# Altium footprint library WANGYU92100PcbLib.PcbLib: 392 footprints (part 15 of 25)
Each footprint in its own frame and in the unit in brackets; x right, y up, seen from the top. Pads: shape width x height; smd on the part's side, far side on the other; paste and mask are expansions set on the pad; w line width, h text height; cw(c..) or ccw(c..) is an arc to the next point about the centre after c.
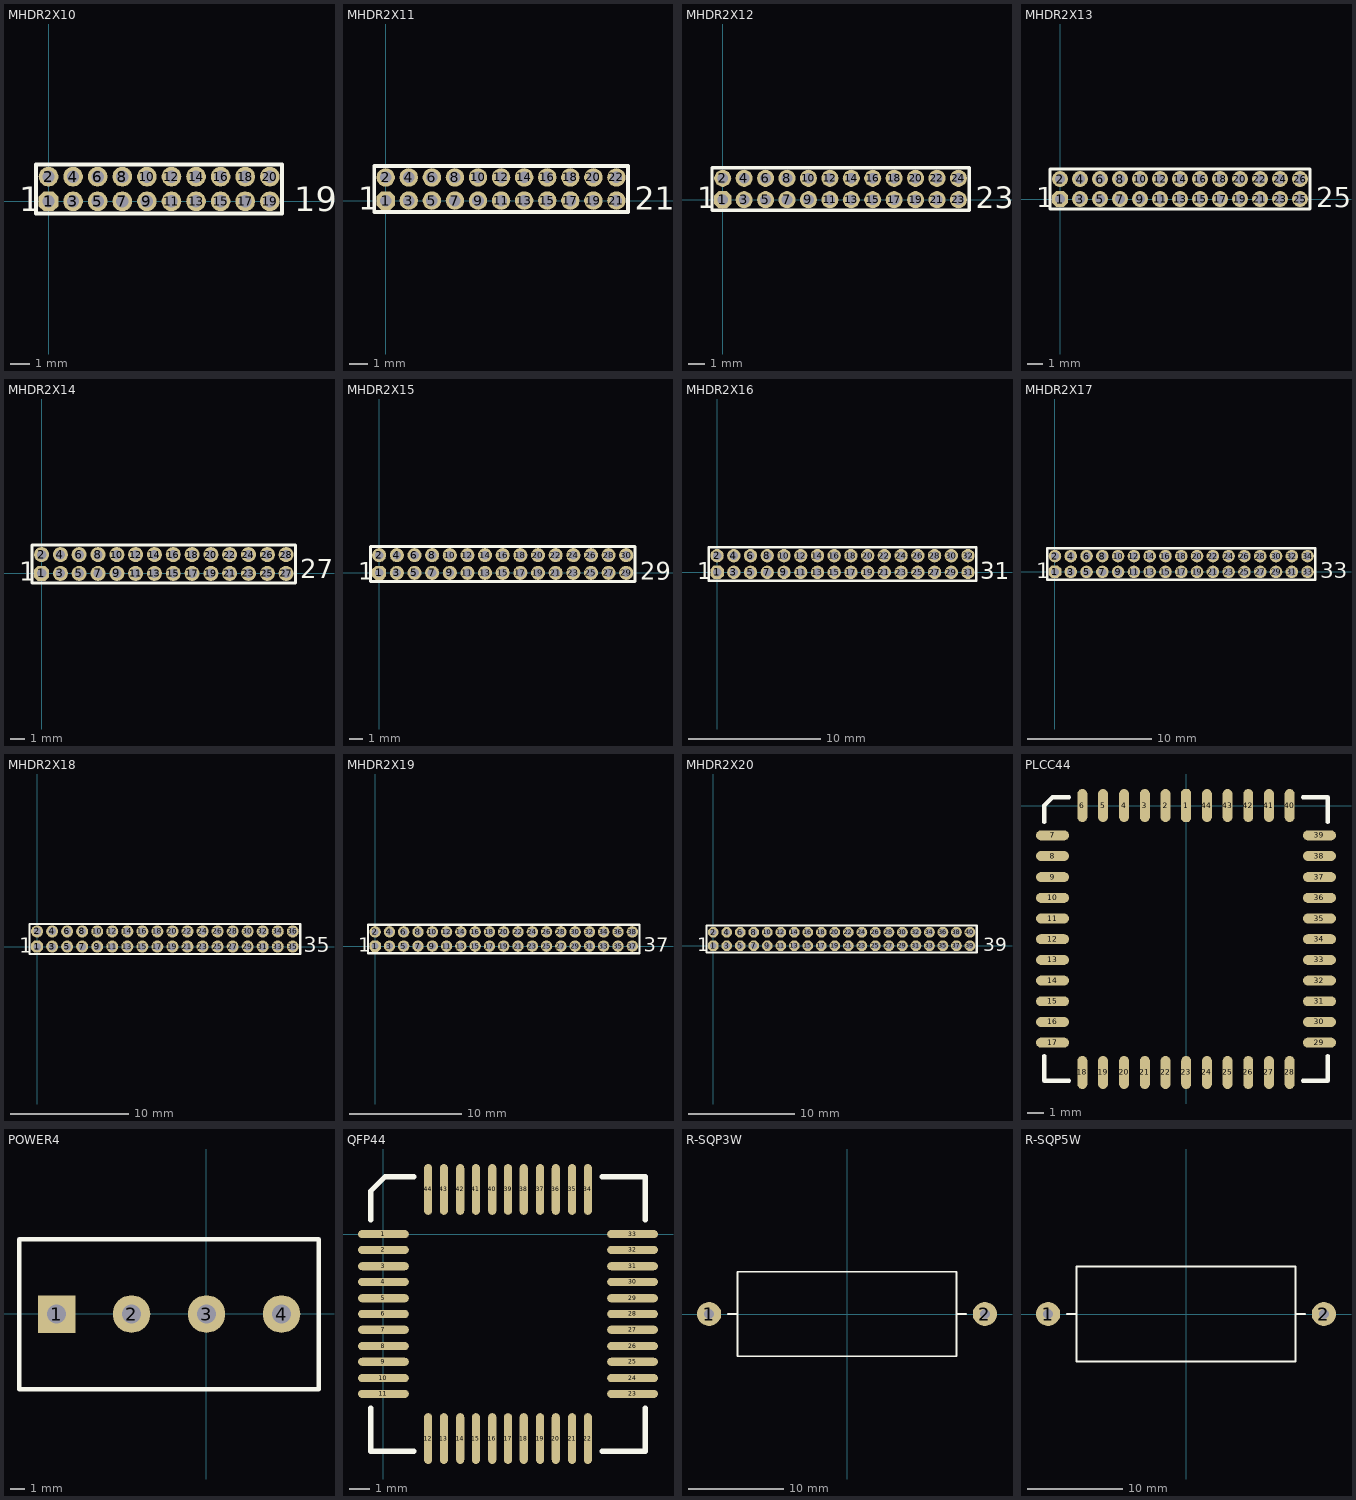
[diagram p14: the footprints below, top view; thin cyan lines are the x and y axes]

## MHDR2X10 [mil]
pads (20):
  oct 40x40 hole 25: 1(0,0)
  round 40 hole 25: 2(0,50) 3(50,0) 4(50,50) 5(100,0) 6(100,50) 7(150,0) 8(150,50) 9(200,0) 10(200,50) 11(250,0) 12(250,50) 13(300,0) 14(300,50) 15(350,0) 16(350,50) 17(400,0) 18(400,50) 19(450,0) 20(450,50)
Top Overlay:
  lines w8: -25,-25 -25,75 475,75 475,-25 -25,-25
  text "1" at -60,-20 h50
  text "19" at 500,-20 h50

## MHDR2X11 [mil]
pads (22):
  oct 40x40 hole 25: 1(0,0)
  round 40 hole 25: 2(0,50) 3(50,0) 4(50,50) 5(100,0) 6(100,50) 7(150,0) 8(150,50) 9(200,0) 10(200,50) 11(250,0) 12(250,50) 13(300,0) 14(300,50) 15(350,0) 16(350,50) 17(400,0) 18(400,50) 19(450,0) 20(450,50) 21(500,0) 22(500,50)
Top Overlay:
  lines w8: -25,-25 525,-25 525,75 -25,75 -25,-25
  text "1" at -60,-20 h50
  text "21" at 540,-20 h50

## MHDR2X12 [mil]
pads (24):
  oct 40x40 hole 25: 1(0,0)
  round 40 hole 25: 2(0,50) 3(50,0) 4(50,50) 5(100,0) 6(100,50) 7(150,0) 8(150,50) 9(200,0) 10(200,50) 11(250,0) 12(250,50) 13(300,0) 14(300,50) 15(350,0) 16(350,50) 17(400,0) 18(400,50) 19(450,0) 20(450,50) 21(500,0) 22(500,50) 23(550,0) 24(550,50)
Top Overlay:
  lines w8: -25,-25 -25,75 575,75 575,-25 -25,-25
  text "23" at 590,-20 h50
  text "1" at -60,-20 h50

## MHDR2X13 [mil]
pads (26):
  oct 40x40 hole 25: 1(0,0)
  round 40 hole 25: 2(0,50) 3(50,0) 4(50,50) 5(100,0) 6(100,50) 7(150,0) 8(150,50) 9(200,0) 10(200,50) 11(250,0) 12(250,50) 13(300,0) 14(300,50) 15(350,0) 16(350,50) 17(400,0) 18(400,50) 19(450,0) 20(450,50) 21(500,0) 22(500,50) 23(550,0) 24(550,50) 25(600,0) 26(600,50)
Top Overlay:
  lines w8: -25,-25 -25,75 625,75 625,-25 -25,-25
  text "25" at 640,-20 h50
  text "1" at -60,-20 h50

## MHDR2X14 [mil]
pads (28):
  oct 40x40 hole 25: 1(0,0)
  round 40 hole 25: 2(0,50) 3(50,0) 4(50,50) 5(100,0) 6(100,50) 7(150,0) 8(150,50) 9(200,0) 10(200,50) 11(250,0) 12(250,50) 13(300,0) 14(300,50) 15(350,0) 16(350,50) 17(400,0) 18(400,50) 19(450,0) 20(450,50) 21(500,0) 22(500,50) 23(550,0) 24(550,50) 25(600,0) 26(600,50) 27(650,0) 28(650,50)
Top Overlay:
  lines w8: -25,-25 -25,75 675,75 675,-25 -25,-25
  text "27" at 687.4,-13.38 h50
  text "1" at -60,-20 h50

## MHDR2X15 [mil]
pads (30):
  oct 40x40 hole 25: 1(0,0)
  round 40 hole 25: 2(0,50) 3(50,0) 4(50,50) 5(100,0) 6(100,50) 7(150,0) 8(150,50) 9(200,0) 10(200,50) 11(250,0) 12(250,50) 13(300,0) 14(300,50) 15(350,0) 16(350,50) 17(400,0) 18(400,50) 19(450,0) 20(450,50) 21(500,0) 22(500,50) 23(550,0) 24(550,50) 25(600,0) 26(600,50) 27(650,0) 28(650,50) 29(700,0) 30(700,50)
Top Overlay:
  lines w8: -25,-25 725,-25 725,75 -25,75 -25,-25
  text "1" at -60,-20 h50
  text "29" at 740,-20 h50

## MHDR2X16 [mil]
pads (32):
  oct 40x40 hole 25: 1(0,0)
  round 40 hole 25: 2(0,50) 3(50,0) 4(50,50) 5(100,0) 6(100,50) 7(150,0) 8(150,50) 9(200,0) 10(200,50) 11(250,0) 12(250,50) 13(300,0) 14(300,50) 15(350,0) 16(350,50) 17(400,0) 18(400,50) 19(450,0) 20(450,50) 21(500,0) 22(500,50) 23(550,0) 24(550,50) 25(600,0) 26(600,50) 27(650,0) 28(650,50) 29(700,0) 30(700,50) 31(750,0) 32(750,50)
Top Overlay:
  lines w8: -25,-25 775,-25 775,75 -25,75 -25,-25
  text "1" at -60,-20 h50
  text "31" at 786.59,-20.54 h50

## MHDR2X17 [mil]
pads (34):
  oct 40x40 hole 25: 1(0,0)
  round 40 hole 25: 2(0,50) 3(50,0) 4(50,50) 5(100,0) 6(100,50) 7(150,0) 8(150,50) 9(200,0) 10(200,50) 11(250,0) 12(250,50) 13(300,0) 14(300,50) 15(350,0) 16(350,50) 17(400,0) 18(400,50) 19(450,0) 20(450,50) 21(500,0) 22(500,50) 23(550,0) 24(550,50) 25(600,0) 26(600,50) 27(650,0) 28(650,50) 29(700,0) 30(700,50) 31(750,0) 32(750,50) 33(800,0) 34(800,50)
Top Overlay:
  lines w8: -25,-25 -25,75 825,75 825,-25 -25,-25
  text "33" at 840,-20 h50
  text "1" at -60,-20 h50

## MHDR2X18 [mil]
pads (36):
  oct 40x40 hole 25: 1(0,0)
  round 40 hole 25: 2(0,50) 3(50,0) 4(50,50) 5(100,0) 6(100,50) 7(150,0) 8(150,50) 9(200,0) 10(200,50) 11(250,0) 12(250,50) 13(300,0) 14(300,50) 15(350,0) 16(350,50) 17(400,0) 18(400,50) 19(450,0) 20(450,50) 21(500,0) 22(500,50) 23(550,0) 24(550,50) 25(600,0) 26(600,50) 27(650,0) 28(650,50) 29(700,0) 30(700,50) 31(750,0) 32(750,50) 33(800,0) 34(800,50) 35(850,0) 36(850,50)
Top Overlay:
  lines w8: -25,-25 875,-25 875,75 -25,75 -25,-25
  text "1" at -60,-20 h50
  text "35" at 887.15,-19.72 h50

## MHDR2X19 [mil]
pads (38):
  oct 40x40 hole 25: 1(0,0)
  round 40 hole 25: 2(0,50) 3(50,0) 4(50,50) 5(100,0) 6(100,50) 7(150,0) 8(150,50) 9(200,0) 10(200,50) 11(250,0) 12(250,50) 13(300,0) 14(300,50) 15(350,0) 16(350,50) 17(400,0) 18(400,50) 19(450,0) 20(450,50) 21(500,0) 22(500,50) 23(550,0) 24(550,50) 25(600,0) 26(600,50) 27(650,0) 28(650,50) 29(700,0) 30(700,50) 31(750,0) 32(750,50) 33(800,0) 34(800,50) 35(850,0) 36(850,50) 37(900,0) 38(900,50)
Top Overlay:
  lines w8: -25,-25 925,-25 925,75 -25,75 -25,-25
  text "1" at -60,-20 h50
  text "37" at 940,-20 h50

## MHDR2X20 [mil]
pads (40):
  oct 40x40 hole 25: 1(0,0)
  round 40 hole 25: 2(0,50) 3(50,0) 4(50,50) 5(100,0) 6(100,50) 7(150,0) 8(150,50) 9(200,0) 10(200,50) 11(250,0) 12(250,50) 13(300,0) 14(300,50) 15(350,0) 16(350,50) 17(400,0) 18(400,50) 19(450,0) 20(450,50) 21(500,0) 22(500,50) 23(550,0) 24(550,50) 25(600,0) 26(600,50) 27(650,0) 28(650,50) 29(700,0) 30(700,50) 31(750,0) 32(750,50) 33(800,0) 34(800,50) 35(850,0) 36(850,50) 37(900,0) 38(900,50) 39(950,0) 40(950,50)
Top Overlay:
  lines w8: -25,-25 -25,75 975,75 975,-25 -25,-25
  text "39" at 1000,-20 h50
  text "1" at -60,-20 h50

## PLCC44 [mil]
pads (44):
  oct 24x80 smd: 1(0,0)
  oval 24x80 smd: 2(-50,0) 3(-100,0) 4(-150,0) 5(-201,0) 6(-251,0) 18(-251,-645) 19(-201,-645) 20(-150,-645) 21(-100,-645) 22(-50,-645) 23(0,-645) 24(50,-645) 25(100,-645) 26(150,-645) 27(200,-645) 28(250,-645) 40(250,0) 41(200,0) 42(150,0) 43(100,0) 44(50,0)
  oval 80x24 smd: 7(-323,-72) 8(-323,-122) 9(-323,-173) 10(-323,-223) 11(-323,-273) 12(-323,-323) 13(-323,-373) 14(-323,-423) 15(-323,-473) 16(-323,-523) 17(-323,-573) 29(322,-573) 30(322,-523) 31(322,-473) 32(322,-423) 33(322,-373) 34(322,-323) 35(322,-273) 36(322,-223) 37(322,-173) 38(322,-122) 39(322,-72)
Top Overlay:
  lines w10: -343,-605 -343,-665 -283,-665 ; -343,-40 -343,0 -323,20 -283,20 ; 282,-665 342,-665 342,-605 ; 282,20 342,20 342,-40

## POWER4 [mil]
pads (4):
  rect 100x100 hole 50: 1(-399.54,-0.22)
  round 100 hole 50: 2(-199.53,-0.22) 3(0.47,-0.22) 4(200.47,-0.22)
Top Overlay:
  lines w12: -499.54,-200.22 -499.54,199.78 300.46,199.78 300.46,-200.22 -499.54,-200.22

## QFP44 [mil] "100mil"
pads (44):
  oval 100x16 smd: 1(0,0) 2(0,-31) 3(0,-63) 4(0,-94) 5(0,-126) 6(0,-157) 7(0,-188) 8(0,-220) 9(0,-251) 10(0,-283) 11(0,-314) 23(490,-314) 24(490,-283) 25(490,-251) 26(490,-220) 27(490,-188) 28(490,-157) 29(490,-126) 30(490,-94) 31(490,-63) 32(490,-31) 33(490,0)
  oval 16x100 smd: 12(88,-402) 13(119,-402) 14(151,-402) 15(182,-402) 16(214,-402) 17(245,-402) 18(276,-402) 19(308,-402) 20(339,-402) 21(371,-402) 22(402,-402) 34(402,88) 35(371,88) 36(339,88) 37(308,88) 38(276,88) 39(245,88) 40(214,88) 41(182,88) 42(151,88) 43(119,88) 44(88,88)
Top Overlay:
  lines w10: -25,-342 -25,-427 60,-427 ; -25,28 -25,85 3,113 60,113 ; 430,-427 515,-427 515,-342 ; 430,113 515,113 515,28

## R-SQP3W [mil]
pads (2):
  round 100 hole 40: 1(-570.87,0) 2(570.87,0)
Top Overlay:
  lines w8: -492.13,0 -452.76,0 ; 452.76,0 492.13,0 ; -452.76,-175 -452.76,175 452.76,175 452.76,-175 -452.76,-175

## R-SQP5W [mil]
pads (2):
  round 100 hole 40: 1(-570.87,0) 2(570.87,0)
Top Overlay:
  lines w8: -492.13,0 -452.76,0 ; 452.76,0 492.13,0 ; -452.76,-196.85 452.76,-196.85 452.76,196.85 -452.76,196.85 -452.76,-196.85